# Altium footprint library WR-WTB_2.54mm.PcbLib: 34 footprints (part 1 of 3)
Each footprint in its own frame and in the unit in brackets; x right, y up, seen from the top. Pads: shape width x height; smd on the part's side, far side on the other; paste and mask are expansions set on the pad; w line width, h text height; cw(c..) or ccw(c..) is an arc to the next point about the centre after c.
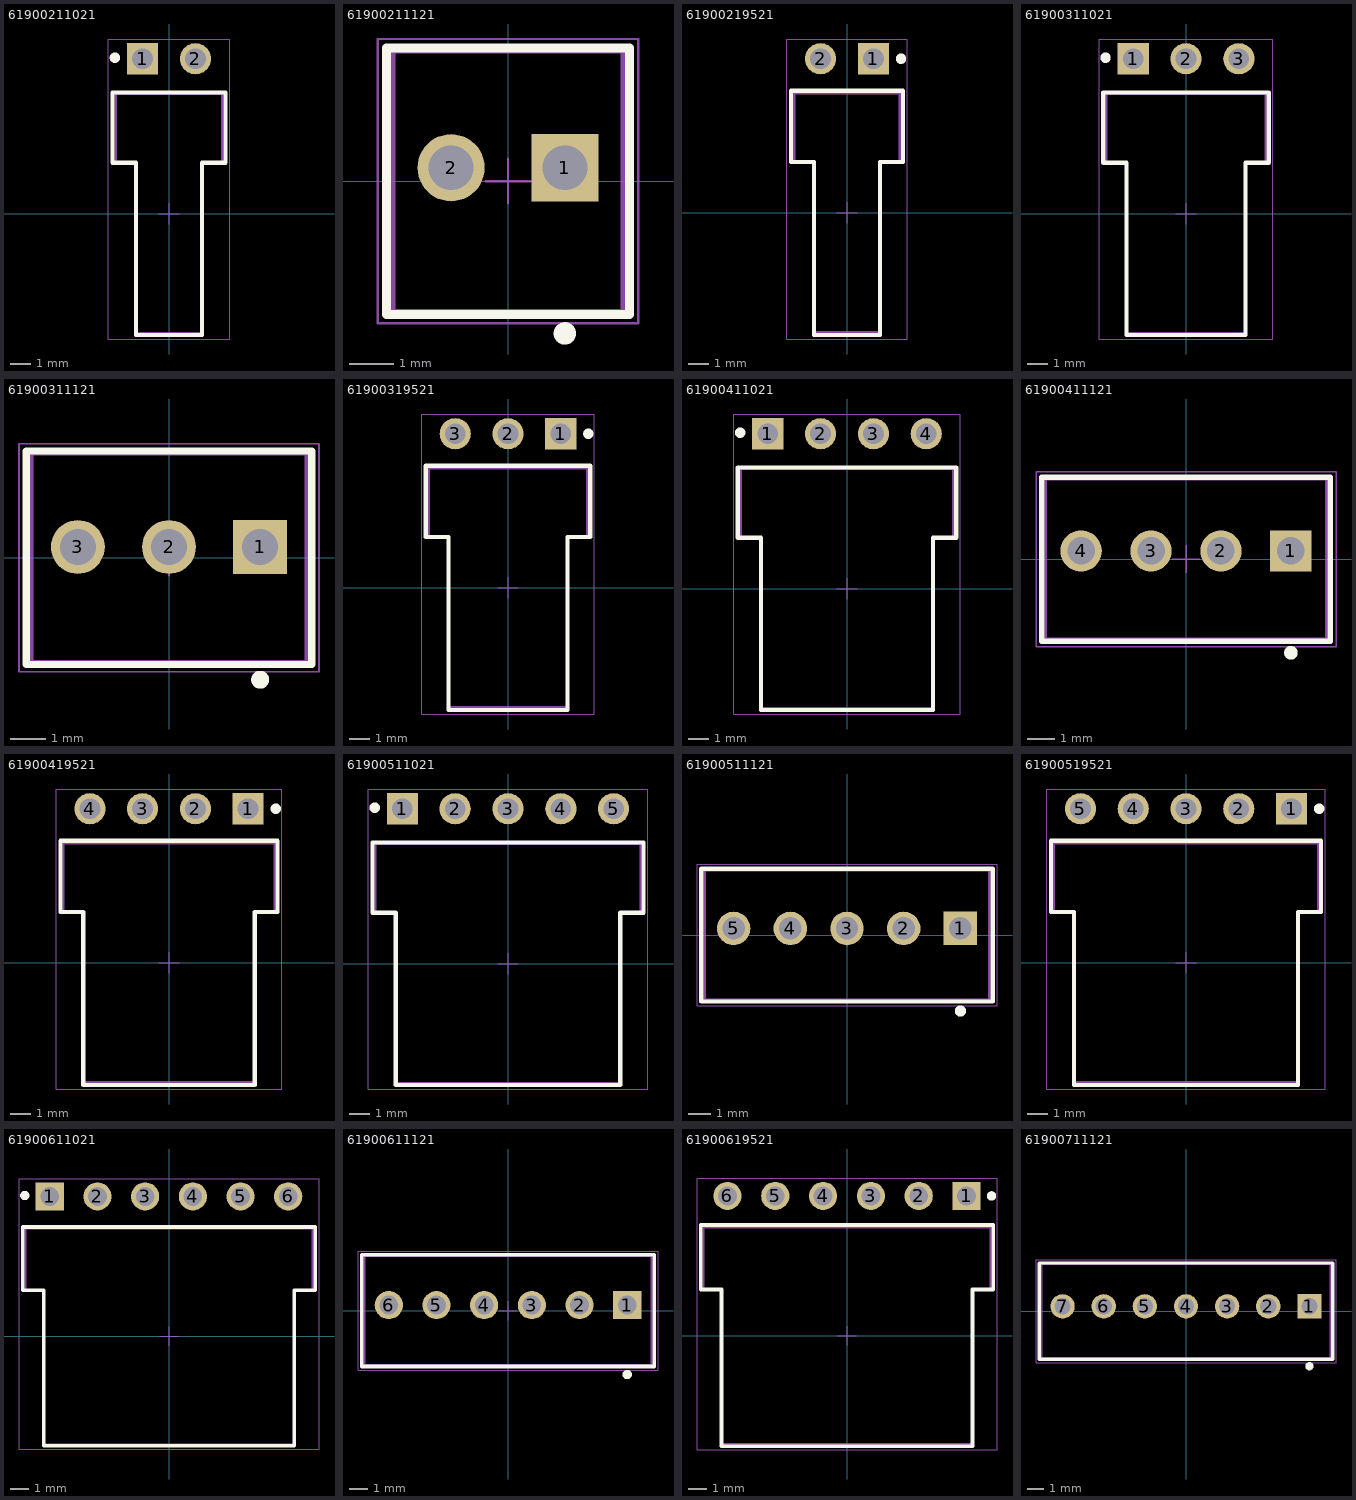
[diagram p0: the footprints below, top view; thin cyan lines are the x and y axes]

## 61900211021 [mm] "2.54mm Male Left Angled Header Bottom Locking, 2p"
height 5.8
pads (2):
  rect 1.5x1.5 hole 1: 1(-1.27,7.45)
  round 1.5 hole 1: 2(1.27,7.45)
Top Overlay:
  circle w0.25: c-2.6,7.5 r0.125
  lines w0.2: -2.71,2.45 -2.71,5.825 2.71,5.825 2.71,2.45 1.59,2.45 1.59,-5.825 -1.59,-5.825 -1.59,2.45 -2.71,2.45
Mechanical 13:
  lines w0.1: -2.56,2.45 -1.59,2.45 -1.59,-5.75 1.59,-5.75 1.59,2.45 2.56,2.45 2.56,5.75 -2.56,5.75 -2.56,2.45
Mechanical 15:
  lines w0.05: -0.5,0 0.5,0 ; 0,-0.5 0,0.5 ; -2.91,-6.025 -2.91,8.4 2.91,8.4 2.91,-6.025 -2.91,-6.025
3D body "61900211021.stp": height 5.83, standoff -3.37, extent -2.54,-5.75 2.54,7.77

## 61900211121 [mm] "2.54mm Male Locking Header, 2p"
height 11.5
pads (2):
  rect 1.5x1.5 hole 1: 1(1.27,0.3)
  round 1.5 hole 1: 2(-1.27,0.3)
Top Overlay:
  circle w0.25: c1.27,-3.4 r0.125
  lines w0.2: -2.71,-2.975 2.71,-2.975 2.71,2.975 -2.71,2.975 -2.71,-2.975
Mechanical 13:
  lines w0.1: -2.56,-2.9 -2.56,2.9 2.56,2.9 2.56,-2.9 -2.56,-2.9
Mechanical 15:
  lines w0.05: -0.5,0 0.5,0 ; 0,-0.5 0,0.5 ; -2.91,-3.175 -2.91,3.175 2.91,3.175 2.91,-3.175 -2.91,-3.175
3D body "61900211121.stp": height 11.53, standoff -3.37, extent -2.54,-2.9 2.54,2.9

## 61900219521 [mm] "2.54mm Male Right Angled Locking Header Top Locking, 2p"
height 5.8
pads (2):
  rect 1.5x1.5 hole 1: 1(1.27,7.42)
  round 1.5 hole 1: 2(-1.27,7.42)
Top Overlay:
  circle w0.25: c2.6,7.42 r0.125
  lines w0.2: -2.69,2.45 -1.59,2.45 -1.59,-5.875 1.59,-5.875 1.59,2.45 2.69,2.45 2.69,5.875 -2.69,5.875 -2.69,2.45
Mechanical 13:
  lines w0.1: -2.54,2.45 -1.59,2.45 -1.59,-5.75 1.59,-5.75 1.59,2.45 2.54,2.45 2.54,5.75 -2.54,5.75 -2.54,2.45
Mechanical 15:
  lines w0.05: -0.5,0 0.5,0 ; 0,-0.5 0,0.5 ; -2.89,-6.075 -2.89,8.37 2.89,8.37 2.89,-6.075 -2.89,-6.075
3D body "61900219521.stp": height 5.83, standoff -3.37, extent -2.54,-5.75 2.54,7.77

## 61900311021 [mm] "2.54mm Male Left Angled Header Bottom Locking, 3p"
height 5.8
pads (3):
  rect 1.5x1.5 hole 1: 1(-2.54,7.45)
  round 1.5 hole 1: 2(0,7.45) 3(2.54,7.45)
Top Overlay:
  circle w0.25: c-3.87,7.5 r0.125
  lines w0.2: -3.98,2.45 -3.98,5.825 3.98,5.825 3.98,2.45 2.86,2.45 2.86,-5.825 -2.86,-5.825 -2.86,2.45 -3.98,2.45
Mechanical 13:
  lines w0.1: -3.83,2.45 -2.86,2.45 -2.86,-5.75 2.86,-5.75 2.86,2.45 3.83,2.45 3.83,5.75 -3.83,5.75 -3.83,2.45
Mechanical 15:
  lines w0.05: -0.5,0 0.5,0 ; 0,-0.5 0,0.5 ; -4.18,-6.025 -4.18,8.4 4.18,8.4 4.18,-6.025 -4.18,-6.025
3D body "61900311021.stp": height 5.83, standoff -3.37, extent -3.81,-5.75 3.81,7.77

## 61900311121 [mm] "2.54mm Male Locking Header, 3p"
height 11.5
pads (3):
  rect 1.5x1.5 hole 1: 1(2.54,0.3)
  round 1.5 hole 1: 2(0,0.3) 3(-2.54,0.3)
Top Overlay:
  circle w0.25: c2.54,-3.4 r0.125
  lines w0.2: -3.98,-2.975 3.98,-2.975 3.98,2.975 -3.98,2.975 -3.98,-2.975
Mechanical 13:
  lines w0.1: -3.83,-2.9 -3.83,2.9 3.83,2.9 3.83,-2.9 -3.83,-2.9
Mechanical 15:
  lines w0.05: -0.5,0 0.5,0 ; 0,-0.5 0,0.5 ; -4.18,-3.175 -4.18,3.175 4.18,3.175 4.18,-3.175 -4.18,-3.175
3D body "61900311121.stp": height 11.53, standoff -3.37, extent -3.81,-2.9 3.81,2.9

## 61900319521 [mm] "2.54mm Male Right Angled Locking Header Top Locking, 3p"
height 5.8
pads (3):
  rect 1.5x1.5 hole 1: 1(2.54,7.42)
  round 1.5 hole 1: 2(0,7.42) 3(-2.54,7.42)
Top Overlay:
  circle w0.25: c3.87,7.42 r0.125
  lines w0.2: -3.96,2.45 -2.86,2.45 -2.86,-5.875 2.86,-5.875 2.86,2.45 3.96,2.45 3.96,5.875 -3.96,5.875 -3.96,2.45
Mechanical 13:
  lines w0.1: -3.81,2.45 -2.86,2.45 -2.86,-5.75 2.86,-5.75 2.86,2.45 3.81,2.45 3.81,5.75 -3.81,5.75 -3.81,2.45
Mechanical 15:
  lines w0.05: -0.5,0 0.5,0 ; 0,-0.5 0,0.5 ; -4.16,-6.075 -4.16,8.37 4.16,8.37 4.16,-6.075 -4.16,-6.075
3D body "61900319521.stp": height 5.83, standoff -3.37, extent -3.81,-5.75 3.81,7.77

## 61900411021 [mm] "2.54mm Male Left Angled Header Bottom Locking, 4p"
height 5.8
pads (4):
  rect 1.5x1.5 hole 1: 1(-3.81,7.45)
  round 1.5 hole 1: 2(-1.27,7.45) 3(1.27,7.45) 4(3.81,7.45)
Top Overlay:
  circle w0.25: c-5.14,7.5 r0.125
  lines w0.2: -5.25,2.45 -4.13,2.45 -4.13,-5.825 4.13,-5.825 4.13,2.45 5.25,2.45 5.25,5.825 -5.25,5.825 -5.25,2.45
Mechanical 13:
  lines w0.1: -5.1,2.45 -5.1,5.75 5.1,5.75 5.1,2.45 4.13,2.45 4.13,-5.75 -4.13,-5.75 -4.13,2.45 -5.1,2.45
Mechanical 15:
  lines w0.05: -0.5,0 0.5,0 ; 0,-0.5 0,0.5 ; -5.45,-6.025 5.45,-6.025 5.45,8.4 -5.45,8.4 -5.45,-6.025
3D body "61900411021.stp": height 5.83, standoff -3.37, extent -5.08,-5.75 5.08,7.77

## 61900411121 [mm] "2.54mm Male Locking Header, 4p"
height 11.5
pads (4):
  rect 1.5x1.5 hole 1: 1(3.81,0.3)
  round 1.5 hole 1: 2(1.27,0.3) 3(-1.27,0.3) 4(-3.81,0.3)
Top Overlay:
  circle w0.25: c3.81,-3.4 r0.125
  lines w0.2: -5.25,-2.975 -5.25,2.975 5.25,2.975 5.25,-2.975 -5.25,-2.975
Mechanical 13:
  lines w0.1: -5.1,-2.9 5.1,-2.9 5.1,2.9 -5.1,2.9 -5.1,-2.9
Mechanical 15:
  lines w0.05: -0.5,0 0.5,0 ; 0,-0.5 0,0.5 ; -5.45,-3.175 5.45,-3.175 5.45,3.175 -5.45,3.175 -5.45,-3.175
3D body "61900411121.stp": height 11.53, standoff -3.37, extent -5.08,-2.9 5.08,2.9

## 61900419521 [mm] "2.54mm Male Right Angled Locking Header Top Locking, 4p"
height 5.8
pads (4):
  rect 1.5x1.5 hole 1: 1(3.81,7.42)
  round 1.5 hole 1: 2(1.27,7.42) 3(-1.27,7.42) 4(-3.81,7.42)
Top Overlay:
  circle w0.25: c5.14,7.42 r0.125
  lines w0.2: -5.23,2.45 -5.23,5.875 5.23,5.875 5.23,2.45 4.13,2.45 4.13,-5.875 -4.13,-5.875 -4.13,2.45 -5.23,2.45
Mechanical 13:
  lines w0.1: -5.08,2.45 -5.08,5.75 5.08,5.75 5.08,2.45 4.13,2.45 4.13,-5.75 -4.13,-5.75 -4.13,2.45 -5.08,2.45
Mechanical 15:
  lines w0.05: -0.5,0 0.5,0 ; 0,-0.5 0,0.5 ; -5.43,-6.075 5.43,-6.075 5.43,8.37 -5.43,8.37 -5.43,-6.075
3D body "61900419521.stp": height 5.83, standoff -3.37, extent -5.08,-5.75 5.08,7.77

## 61900511021 [mm] "2.54mm Male Left Angled Header Bottom Locking, 5p"
height 5.8
pads (5):
  rect 1.5x1.5 hole 1: 1(-5.08,7.45)
  round 1.5 hole 1: 2(-2.54,7.45) 3(0,7.45) 4(2.54,7.45) 5(5.08,7.45)
Top Overlay:
  circle w0.25: c-6.41,7.5 r0.125
  lines w0.2: -6.52,2.45 -5.4,2.45 -5.4,-5.825 5.4,-5.825 5.4,2.45 6.52,2.45 6.52,5.825 -6.52,5.825 -6.52,2.45
Mechanical 13:
  lines w0.1: -6.37,2.45 -6.37,5.75 6.37,5.75 6.37,2.45 5.4,2.45 5.4,-5.75 -5.4,-5.75 -5.4,2.45 -6.37,2.45
Mechanical 15:
  lines w0.05: -0.5,0 0.5,0 ; 0,-0.5 0,0.5 ; -6.72,-6.025 6.72,-6.025 6.72,8.4 -6.72,8.4 -6.72,-6.025
3D body "61900511021.stp": height 5.83, standoff -3.37, extent -6.35,-5.75 6.35,7.77

## 61900511121 [mm] "2.54mm Male Locking Header, 5p"
height 11.5
pads (5):
  rect 1.5x1.5 hole 1: 1(5.08,0.3)
  round 1.5 hole 1: 2(2.54,0.3) 3(0,0.3) 4(-2.54,0.3) 5(-5.08,0.3)
Top Overlay:
  circle w0.25: c5.08,-3.4 r0.125
  lines w0.2: -6.52,-2.975 6.52,-2.975 6.52,2.975 -6.52,2.975 -6.52,-2.975
Mechanical 13:
  lines w0.1: -6.37,-2.9 -6.37,2.9 6.37,2.9 6.37,-2.9 -6.37,-2.9
Mechanical 15:
  lines w0.05: -0.5,0 0.5,0 ; 0,-0.5 0,0.5 ; -6.72,-3.175 -6.72,3.175 6.72,3.175 6.72,-3.175 -6.72,-3.175
3D body "61900511121.stp": height 11.53, standoff -3.37, extent -6.35,-2.9 6.35,2.9

## 61900519521 [mm] "2.54mm Male Right Angled Locking Header Top Locking, 5p"
height 5.8
pads (5):
  rect 1.5x1.5 hole 1: 1(5.08,7.42)
  round 1.5 hole 1: 2(2.54,7.42) 3(0,7.42) 4(-2.54,7.42) 5(-5.08,7.42)
Top Overlay:
  circle w0.25: c6.41,7.42 r0.125
  lines w0.2: -6.5,2.45 -6.5,5.875 6.5,5.875 6.5,2.45 5.4,2.45 5.4,-5.875 -5.4,-5.875 -5.4,2.45 -6.5,2.45
Mechanical 13:
  lines w0.1: -6.35,2.45 -6.35,5.75 6.35,5.75 6.35,2.45 5.4,2.45 5.4,-5.75 -5.4,-5.75 -5.4,2.45 -6.35,2.45
Mechanical 15:
  lines w0.05: -0.5,0 0.5,0 ; 0,-0.5 0,0.5 ; -6.7,-6.075 6.7,-6.075 6.7,8.37 -6.7,8.37 -6.7,-6.075
3D body "61900519521.stp": height 5.83, standoff -3.37, extent -6.35,-5.75 6.35,7.77

## 61900611021 [mm] "2.54mm Male Left Angled Header Bottom Locking, 6p"
height 5.8
pads (6):
  rect 1.5x1.5 hole 1: 1(-6.35,7.45)
  round 1.5 hole 1: 2(-3.81,7.45) 3(-1.27,7.45) 4(1.27,7.45) 5(3.81,7.45) 6(6.35,7.45)
Top Overlay:
  circle w0.25: c-7.68,7.5 r0.125
  lines w0.2: -7.79,2.45 -7.79,5.825 7.79,5.825 7.79,2.45 6.67,2.45 6.67,-5.825 -6.67,-5.825 -6.67,2.45 -7.79,2.45
Mechanical 13:
  lines w0.1: -7.64,2.45 -6.67,2.45 -6.67,-5.75 6.67,-5.75 6.67,2.45 7.64,2.45 7.64,5.75 -7.64,5.75 -7.64,2.45
Mechanical 15:
  lines w0.05: -0.5,0 0.5,0 ; 0,-0.5 0,0.5 ; -7.99,-6.025 -7.99,8.4 7.99,8.4 7.99,-6.025 -7.99,-6.025
3D body "61900611021.stp": height 5.83, standoff -3.37, extent -7.62,-5.75 7.62,7.77

## 61900611121 [mm] "2.54mm Male Locking Header, 6p"
height 11.5
pads (6):
  rect 1.5x1.5 hole 1: 1(6.35,0.3)
  round 1.5 hole 1: 2(3.81,0.3) 3(1.27,0.3) 4(-1.27,0.3) 5(-3.81,0.3) 6(-6.35,0.3)
Top Overlay:
  circle w0.25: c6.35,-3.4 r0.125
  lines w0.2: -7.79,-2.975 -7.79,2.975 7.79,2.975 7.79,-2.975 -7.79,-2.975
Mechanical 13:
  lines w0.1: -7.64,-2.9 7.64,-2.9 7.64,2.9 -7.64,2.9 -7.64,-2.9
Mechanical 15:
  lines w0.05: -0.5,0 0.5,0 ; 0,-0.5 0,0.5 ; -7.99,-3.175 7.99,-3.175 7.99,3.175 -7.99,3.175 -7.99,-3.175
3D body "61900611121.stp": height 11.53, standoff -3.37, extent -7.62,-2.9 7.62,2.9

## 61900619521 [mm] "2.54mm Male Right Angled Locking Header Top Locking, 6p"
height 5.8
pads (6):
  rect 1.5x1.5 hole 1: 1(6.35,7.42)
  round 1.5 hole 1: 2(3.81,7.42) 3(1.27,7.42) 4(-1.27,7.42) 5(-3.81,7.42) 6(-6.35,7.42)
Top Overlay:
  circle w0.25: c7.68,7.42 r0.125
  lines w0.2: -7.77,2.45 -7.77,5.875 7.77,5.875 7.77,2.45 6.67,2.45 6.67,-5.875 -6.67,-5.875 -6.67,2.45 -7.77,2.45
Mechanical 13:
  lines w0.1: -7.62,2.45 -7.62,5.75 7.62,5.75 7.62,2.45 6.67,2.45 6.67,-5.75 -6.67,-5.75 -6.67,2.45 -7.62,2.45
Mechanical 15:
  lines w0.05: -0.5,0 0.5,0 ; 0,-0.5 0,0.5 ; -7.97,-6.075 7.97,-6.075 7.97,8.37 -7.97,8.37 -7.97,-6.075
3D body "61900619521.stp": height 5.83, standoff -3.37, extent -7.62,-5.75 7.62,7.77

## 61900711121 [mm] "2.54mm Male Locking Header, 7p"
height 11.5
pads (7):
  rect 1.5x1.5 hole 1: 1(7.62,0.3)
  round 1.5 hole 1: 2(5.08,0.3) 3(2.54,0.3) 4(0,0.3) 5(-2.54,0.3) 6(-5.08,0.3) 7(-7.62,0.3)
Top Overlay:
  circle w0.25: c7.62,-3.4 r0.125
  lines w0.2: -9.06,-2.975 9.06,-2.975 9.06,2.975 -9.06,2.975 -9.06,-2.975
Mechanical 13:
  lines w0.1: -8.91,-2.9 -8.91,2.9 8.91,2.9 8.91,-2.9 -8.91,-2.9
Mechanical 15:
  lines w0.05: -0.5,0 0.5,0 ; 0,-0.5 0,0.5 ; -9.26,-3.175 -9.26,3.175 9.26,3.175 9.26,-3.175 -9.26,-3.175
3D body "61900711121.stp": height 11.53, standoff -3.37, extent -8.89,-2.9 8.89,2.9